# Altium footprint library ESP32MINI1H4.PcbLib: 1 footprints
Each footprint in its own frame and in the unit in brackets; x right, y up, seen from the top. Pads: shape width x height; smd on the part's side, far side on the other; paste and mask are expansions set on the pad; w line width, h text height; cw(c..) or ccw(c..) is an arc to the next point about the centre after c.
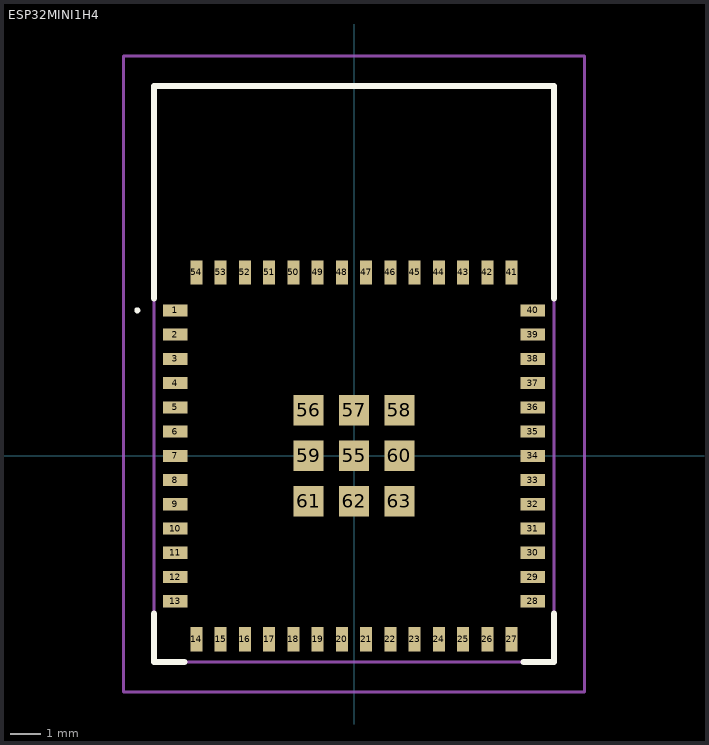
[diagram p0: the footprint, top view; thin cyan lines are the x and y axes]

## ESP32MINI1H4 [mm]
pads (63):
  rect 0.8x0.4 smd: 1(-5.9,4.8) 2(-5.9,4) 3(-5.9,3.2) 4(-5.9,2.4) 5(-5.9,1.6) 6(-5.9,0.8) 7(-5.9,0) 8(-5.9,-0.8) 9(-5.9,-1.6) 10(-5.9,-2.4) 11(-5.9,-3.2) 12(-5.9,-4) 13(-5.9,-4.8) 28(5.9,-4.8) 29(5.9,-4) 30(5.9,-3.2) 31(5.9,-2.4) 32(5.9,-1.6) 33(5.9,-0.8) 34(5.9,0) 35(5.9,0.8) 36(5.9,1.6) 37(5.9,2.4) 38(5.9,3.2) 39(5.9,4) 40(5.9,4.8)
  rect 0.4x0.8 smd: 14(-5.2,-6.05) 15(-4.4,-6.05) 16(-3.6,-6.05) 17(-2.8,-6.05) 18(-2,-6.05) 19(-1.2,-6.05) 20(-0.4,-6.05) 21(0.4,-6.05) 22(1.2,-6.05) 23(2,-6.05) 24(2.8,-6.05) 25(3.6,-6.05) 26(4.4,-6.05) 27(5.2,-6.05) 41(5.2,6.05) 42(4.4,6.05) 43(3.6,6.05) 44(2.8,6.05) 45(2,6.05) 46(1.2,6.05) 47(0.4,6.05) 48(-0.4,6.05) 49(-1.2,6.05) 50(-2,6.05) 51(-2.8,6.05) 52(-3.6,6.05) 53(-4.4,6.05) 54(-5.2,6.05)
  rect 1x1 smd: 55(0,0) 56(-1.5,1.5) 57(0,1.5) 58(1.5,1.5) 59(-1.5,0) 60(1.5,0) 61(-1.5,-1.5) 62(0,-1.5) 63(1.5,-1.5)
Top Overlay:
  lines w0.1: -7.2,4.8 -7.2,4.8 ; -7.2,4.8 ccw(c-7.15,4.8) -7.1,4.8 ; -7.2,4.8 cw(c-7.15,4.8) -7.1,4.8 ; -7.1,4.8 -7.1,4.8
  lines w0.2: -6.6,-5.2 -6.6,-6.8 -5.6,-6.8 ; -6.6,5.2 -6.6,12.2 6.6,12.2 6.6,5.2 ; 5.6,-6.8 6.6,-6.8 6.6,-5.2
Mechanical 15:
  lines w0.1: -6.6,-6.8 6.6,-6.8 6.6,12.2 -6.6,12.2 -6.6,-6.8
Mechanical 20:
  lines w0.1: -7.6,-7.8 7.6,-7.8 7.6,13.2 -7.6,13.2 -7.6,-7.8